# EAGLE library part 691401710024 (library Wurth_Elektronik_Electromechanic_Terminal_Blocks_Connectors_rev16b)
WR-TBL Terminal block - serie 401 5,0mm - Spring clamp/Screw less - horizontal entry Code:Con_TBL_Screwless_5.00_6914017100xxB Created 2014-12-22, aslant tao 2014 (C) Würth Elektronik
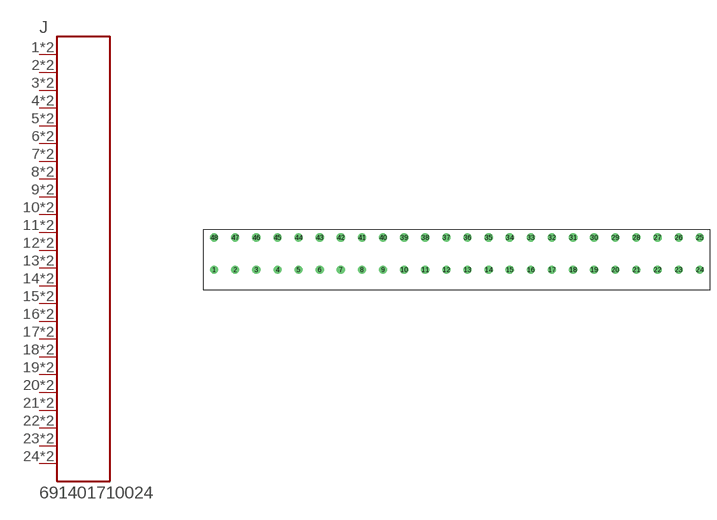
[diagram p230: symbol with the pads of 691401710024; footprint 691401710024]

Designator prefix J

## 691401710024  [691401710024]
1  1  pas
2  2  pas
3  3  pas
4  4  pas
5  5  pas
6  6  pas
7  7  pas
8  8  pas
9  9  pas
10  10  pas
11  11  pas
12  12  pas
13  13  pas
14  14  pas
15  15  pas
16  16  pas
17  17  pas
18  18  pas
19  19  pas
20  20  pas
21  21  pas
22  22  pas
23  23  pas
24  24  pas
25  24  pas
26  23  pas
27  22  pas
28  21  pas
29  20  pas
30  19  pas
31  18  pas
32  17  pas
33  16  pas
34  15  pas
35  14  pas
36  13  pas
37  12  pas
38  11  pas
39  10  pas
40  9  pas
41  8  pas
42  7  pas
43  6  pas
44  5  pas
45  4  pas
46  3  pas
47  2  pas
48  1  pas

## Footprint 691401710024 (pad centres in mm)
WR-TBL Serie 401 - 5.0mm Screwless Horizontal Entry - 2 mm2 Wires, 24 Pins
drill 1.3: 1 -65,0; 2 -60,0; 3 -55,0; 4 -50,0; 5 -45,0; 6 -40,0; 7 -35,0; 8 -30,0; 9 -25,0; 10 -20,0; 11 -15,0; 12 -10,0; 13 -5,0; 14 0,0; 15 5,0; 16 10,0; 17 15,0; 18 20,0; 19 25,0; 20 30,0; 21 35,0; 22 40,0; 23 45,0; 24 50,0; 25 50,7.62; 26 45,7.62; 27 40,7.62; 28 35,7.62; 29 30,7.62; 30 25,7.62; 31 20,7.62; 32 15,7.62; 33 10,7.62; 34 5,7.62; 35 0,7.62; 36 -5,7.62; 37 -10,7.62; 38 -15,7.62; 39 -20,7.62; 40 -25,7.62; 41 -30,7.62; 42 -35,7.62; 43 -40,7.62; 44 -45,7.62; 45 -50,7.62; 46 -55,7.62; 47 -60,7.62; 48 -65,7.62